# Altium footprint library RES_Footprint.PcbLib: 4 footprints
Each footprint in its own frame and in the unit in brackets; x right, y up, seen from the top. Pads: shape width x height; smd on the part's side, far side on the other; paste and mask are expansions set on the pad; w line width, h text height; cw(c..) or ccw(c..) is an arc to the next point about the centre after c.
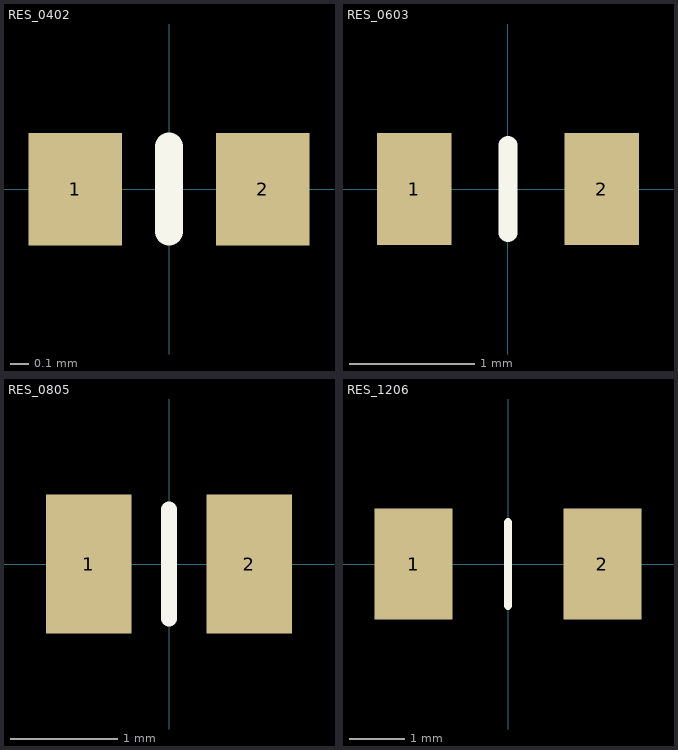
[diagram p0: the footprints below, top view; thin cyan lines are the x and y axes]

## RES_0402 [mm]
height 0.35
pads (2):
  rect 0.5x0.6 smd: 1(-0.5,0) 2(0.5,0)
Top Overlay:
  lines w0.15: 0,-0.225 0,0.225
3D body "User Library-CR1005-0402.STEP": height 0.35, standoff 0, extent -0.5,-0.25 0.5,0.25

## RES_0603 [mm]
height 0.45
pads (2):
  rect 0.6x0.9 smd: 1(-0.75,0) 2(0.75,0)
Top Overlay:
  lines w0.15: 0,-0.35 0,0.35
3D body "User Library-CR1608-0603.STEP": height 0.45, standoff 0, extent -0.8,-0.4 0.8,0.4

## RES_0805 [mm]
height 0.5
pads (2):
  rect 0.8x1.3 smd: 1(-0.75,0) 2(0.75,0)
Top Overlay:
  lines w0.15: 0,-0.508 0,0.508
3D body "User Library-CR2012-0805.STEP": height 0.6, standoff 0, extent -1,-0.625 1,0.625

## RES_1206 [mm]
height 0.55
pads (2):
  rect 1.4x2 smd: 1(-1.7,0) 2(1.7,0)
Top Overlay:
  lines w0.15: 0,-0.75 0,0.75
3D body "User Library-CR3216-1206.STEP": height 0.6, standoff 0, extent -1.6,-0.8 1.6,0.8